# EAGLE library part ROCKETBUS (library ScottsLib)
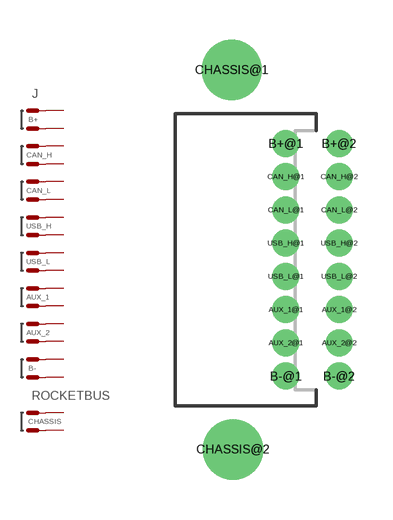
[diagram p3: symbol with the pads of ROCKETBUS-PKG; footprint ROCKETBUS-PKG]

Designator prefix J

## ROCKETBUS  [ROCKETBUS-PKG]
AUX_1@1  AUX_1  pas
AUX_1@2  AUX_1  pas
AUX_2@1  AUX_2  pas
AUX_2@2  AUX_2  pas
B+@1  B+  pwr
B+@2  B+  pwr
B-@1  B-  pwr
B-@2  B-  pwr
CAN_H@1  CAN_H  pas
CAN_H@2  CAN_H  pas
CAN_L@1  CAN_L  pas
CAN_L@2  CAN_L  pas
CHASSIS@1  CHASSIS  pwr
CHASSIS@2  CHASSIS  pwr
USB_H@1  USB_H  pas
USB_H@2  USB_H  pas
USB_L@1  USB_L  pas
USB_L@2  USB_L  pas

## Footprint ROCKETBUS-PKG (pad centres in mm)
drill 0.508 pad 1.016 round: AUX_1@1 0,-1.875; AUX_1@2 2,-1.875; AUX_2@1 0,-3.125; AUX_2@2 2,-3.125; B+@1 0,4.375; B+@2 2,4.375; B-@1 0,-4.375; B-@2 2,-4.375; CAN_H@1 0,3.125; CAN_H@2 2,3.125; CAN_L@1 0,1.875; CAN_L@2 2,1.875; USB_H@1 0,0.625; USB_H@2 2,0.625; USB_L@1 0,-0.625; USB_L@2 2,-0.625
drill 1.511 round: CHASSIS@1 -2.032,7.136; CHASSIS@2 -1.982,-7.136